# EAGLE library part BRYAN_TACTILE-4 (library HeaterMeterPI)
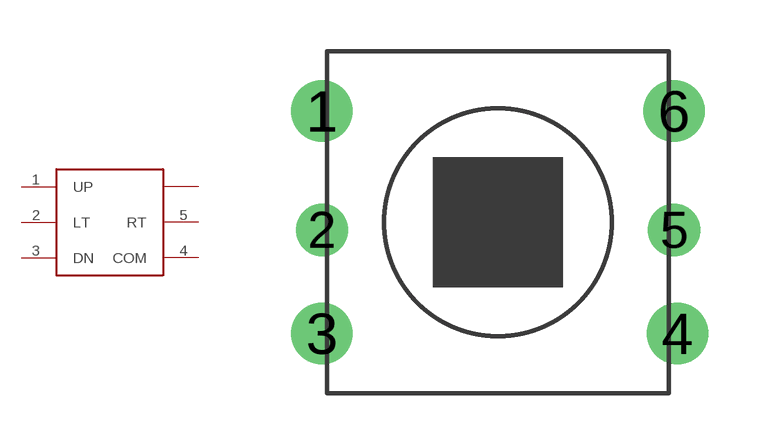
[diagram p1: symbol with the pads of BRYAN_TACT4; footprint BRYAN_TACT4]

Designator prefix -

## BRYAN_TACTILE-4  [BRYAN_TACT4]
1  UP
2  LT
3  DN
4  COM
5  RT
6  NC  nc

## Footprint BRYAN_TACT4 (pad centres in mm)
drill 1.2: 1 -5.15,3.25; 3 -5.15,-3.25; 4 5.25,-3.25; 6 5.15,3.25
drill 1.016: 2 -5.15,-0.225; 5 5.15,-0.225